# Altium schematic symbol library TexasInstruments.SchLib: 3 symbols
Pins are listed as number, name and electrical type; pins without a type are passive.

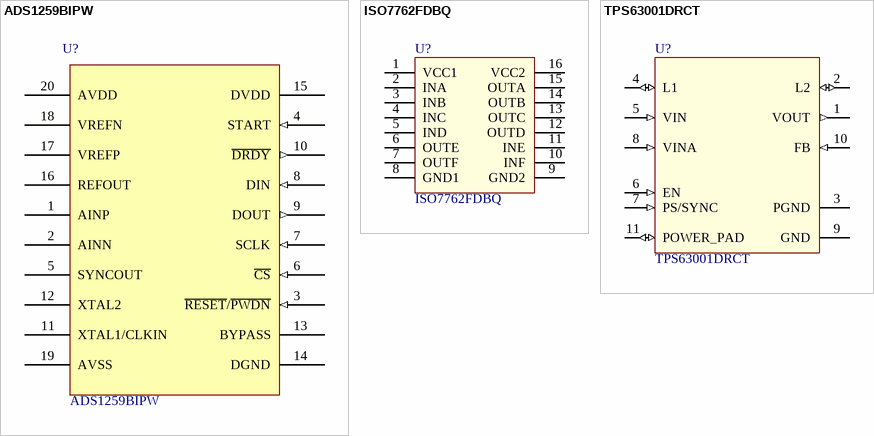
[diagram p0: symbols ADS1259BIPW to TPS63001DRCT]

## ADS1259BIPW
designator U?
Analog to Digital Converter 14.4kSPS 24-Bit; Manufacturer: Texas Instruments; Supplier 1: Digi-Key; Supplier 2: Mouser; Supplier Part Number 1: 296-27183-5-ND; Supplier Part Number 2: 595-ADS1259BIPW; PartNumber: ADS1259BIPW
footprint TSSOP20 (TSOP, 14-Leads, Body 5.1x4.5mm (max), Pitch 0.65mm, IPC Low Density)
pins: 1 AINP, 2 AINN, 3 ~{RESET}/~{PWDN} (in), 4 START (in), 5 SYNCOUT, 6 ~{CS} (in), 7 SCLK (in), 8 DIN (in), 9 DOUT (out), 10 ~{DRDY} (out), 11 XTAL1/CLKIN (power), 12 XTAL2 (power), 13 BYPASS (power), 14 DGND (power), 15 DVDD (power), 16 REFOUT (power), 17 VREFP (power), 18 VREFN (power), 19 AVSS (power), 20 AVDD (power)

## ISO7762FDBQ
designator U?
Digital Isolator, six-channel, 4/2, 16-SSOP; Manufacturer: Texas Instruments; Supplier 1: Digi-Key; Supplier 2: Mouser; Supplier Part Number 1: 296-49452-6-ND; Supplier Part Number 2: 595-ISO7762FDBQR; PartNumber: ISO7762FDBQ
footprint SSOP16
pins: 1 VCC1, 2 INA, 3 INB, 4 INC, 5 IND, 6 OUTE, 7 OUTF, 8 GND1, 9 GND2, 10 INF, 11 INE, 12 OUTD, 13 OUTC, 14 OUTB, 15 OUTA, 16 VCC2

## TPS63001DRCT
designator U?
Buck Boost Regulator 3.3V 1.6A 10VSON; Manufacturer: Texas Instruments; PartNumber: TPS63001DRCT
footprint VSON10
pins: 1 VOUT (out), 2 L2 (io), 3 PGND (power), 4 L1 (io), 5 VIN (in), 6 EN (in), 7 PS/SYNC (in), 8 VINA (in), 9 GND (power), 10 FB (in), 11 POWER_PAD (io)